# Altium footprint library ART-PI扩展_2021-08-20.PcbLib: 1 footprints
Each footprint in its own frame and in the unit in brackets; x right, y up, seen from the top. Pads: shape width x height; smd on the part's side, far side on the other; paste and mask are expansions set on the pad; w line width, h text height; cw(c..) or ccw(c..) is an arc to the next point about the centre after c.
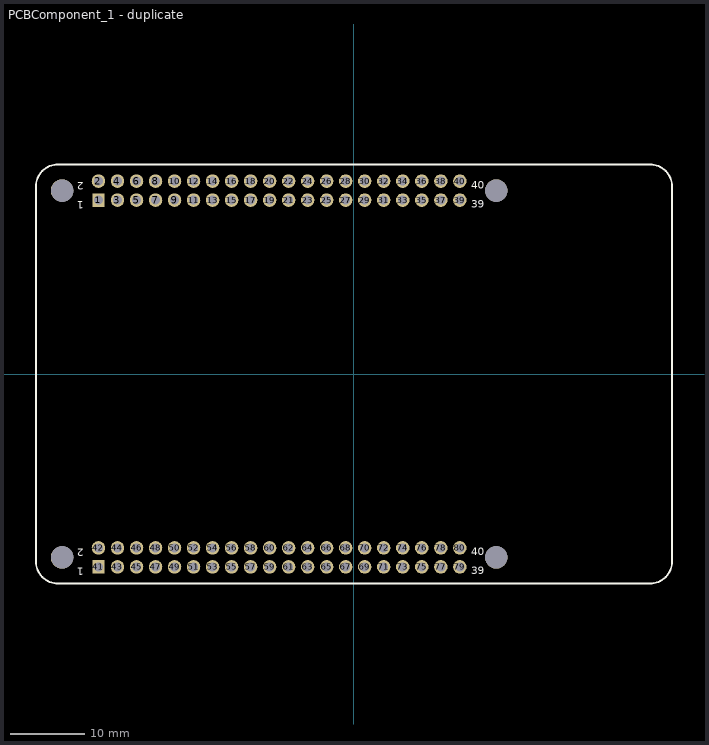
[diagram p0: the footprint, top view; thin cyan lines are the x and y axes]

## PCBComponent_1 - duplicate [mm]
pads (84):
  rect 1.575x1.8 hole 1.2: 1(-34.13,23.23) 41(-34.13,-25.77)
  round 1.8 hole 1.2: 2(-34.13,25.77) 3(-31.59,23.23) 4(-31.59,25.77) 5(-29.05,23.23) 6(-29.05,25.77) 7(-26.51,23.23) 8(-26.51,25.77) 9(-23.97,23.23) 10(-23.97,25.77) 11(-21.43,23.23) 12(-21.43,25.77) 13(-18.89,23.23) 14(-18.89,25.77) 15(-16.35,23.23) 16(-16.35,25.77) 17(-13.81,23.23) 18(-13.81,25.77) 19(-11.27,23.23) 20(-11.27,25.77) 21(-8.73,23.23) 22(-8.73,25.77) 23(-6.19,23.23) 24(-6.19,25.77) 25(-3.65,23.23) 26(-3.65,25.77) 27(-1.11,23.23) 28(-1.11,25.77) 29(1.43,23.23) 30(1.43,25.77) 31(3.97,23.23) 32(3.97,25.77) 33(6.51,23.23) 34(6.51,25.77) 35(9.05,23.23) 36(9.05,25.77) 37(11.59,23.23) 38(11.59,25.77) 39(14.13,23.23) 40(14.13,25.77) 42(-34.13,-23.23) 43(-31.59,-25.77) 44(-31.59,-23.23) 45(-29.05,-25.77) 46(-29.05,-23.23) 47(-26.51,-25.77) 48(-26.51,-23.23) 49(-23.97,-25.77) 50(-23.97,-23.23) 51(-21.43,-25.77) 52(-21.43,-23.23) 53(-18.89,-25.77) 54(-18.89,-23.23) 55(-16.35,-25.77) 56(-16.35,-23.23) 57(-13.81,-25.77) 58(-13.81,-23.23) 59(-11.27,-25.77) 60(-11.27,-23.23) 61(-8.73,-25.77) 62(-8.73,-23.23) 63(-6.19,-25.77) 64(-6.19,-23.23) 65(-3.65,-25.77) 66(-3.65,-23.23) 67(-1.11,-25.77) 68(-1.11,-23.23) 69(1.43,-25.77) 70(1.43,-23.23) 71(3.97,-25.77) 72(3.97,-23.23) 73(6.51,-25.77) 74(6.51,-23.23) 75(9.05,-25.77) 76(9.05,-23.23) 77(11.59,-25.77) 78(11.59,-23.23) 79(14.13,-25.77) 80(14.13,-23.23)
  round 3 hole 3 unplated: ""(-39,-24.5) ""(-39,24.5) ""(19,-24.5) ""(19,24.5)
Top Overlay:
  lines w0.254: -42.5,-25 ccw(c-39.5,-25) -39.5,-28 39.5,-28 ccw(c39.5,-25) 42.5,-25 42.5,25 ccw(c39.5,25) 39.5,28 -39.5,28 ccw(c-39.5,25) -42.5,25 -42.5,-25
  text "1" at -36.118,23.095 h1
  text "2" at -36.118,25.635 h1
  text "39" at 15.654,22.222 h1
  text "40" at 15.654,24.762 h1
  text "1" at -36.118,-25.905 h1
  text "2" at -36.118,-23.365 h1
  text "39" at 15.654,-26.778 h1
  text "40" at 15.654,-24.238 h1
Bottom Overlay:
  lines w0.203: -35.4,-27.04 15.4,-27.04 15.4,-21.96 -35.4,-21.96 -35.4,-27.04 ; -35.4,21.96 15.4,21.96 15.4,27.04 -35.4,27.04 -35.4,21.96
Top Solder:
  drawing of 21 lines, arcs and shapes, not listed
Bottom Solder:
  drawing of 19 lines, arcs and shapes, not listed